# Altium footprint library Dallas Semiconductor Footprints.PcbLib: 181 footprints (part 10 of 12)
Each footprint in its own frame and in the unit in brackets; x right, y up, seen from the top. Pads: shape width x height; smd on the part's side, far side on the other; paste and mask are expansions set on the pad; w line width, h text height; cw(c..) or ccw(c..) is an arc to the next point about the centre after c.
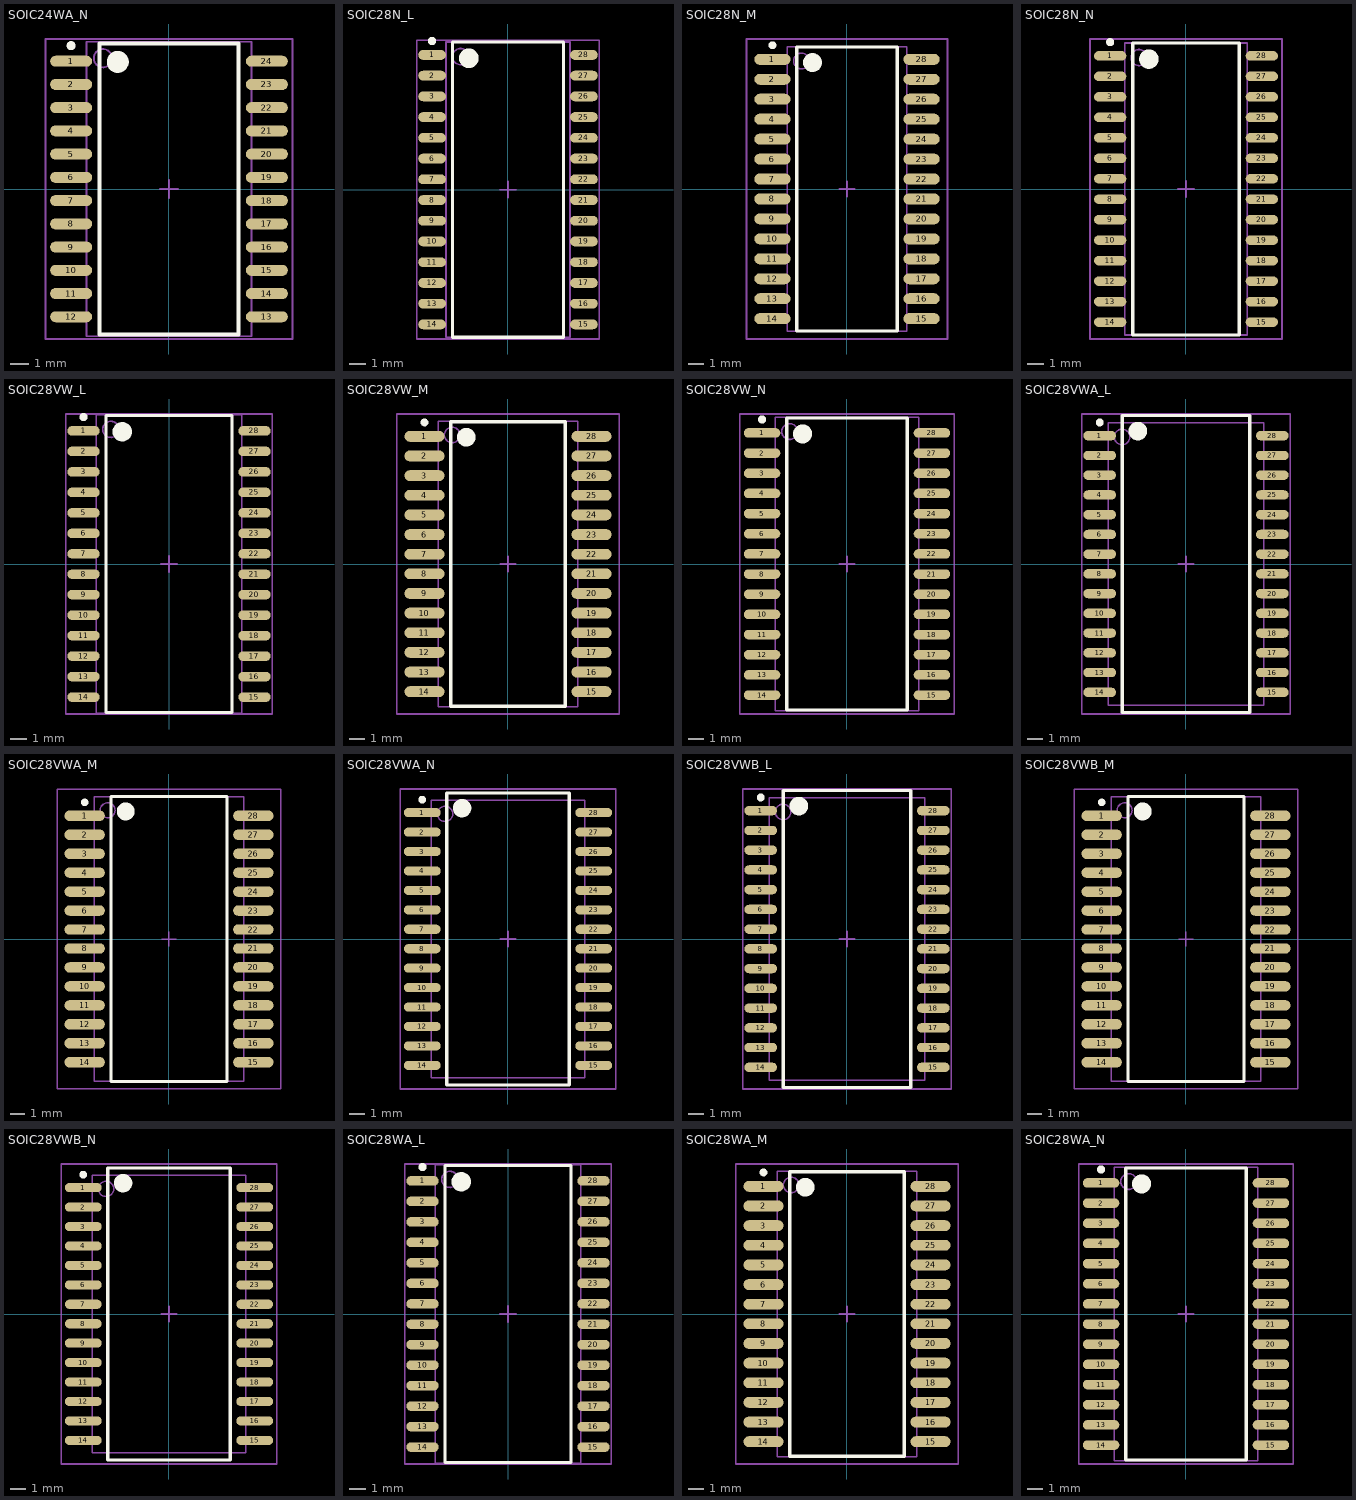
[diagram p9: the footprints below, top view; thin cyan lines are the x and y axes]

## SOIC24WA_N [mm] "24-Pin Small Outline Integrated Circuit 1.27 mm Pitch, IPC Medium Density"
height 3.05
pads (24):
  oval 2.3x0.6 smd: 1(-5.35,6.985) 2(-5.35,5.715) 3(-5.35,4.445) 4(-5.35,3.175) 5(-5.35,1.905) 6(-5.35,0.635) 7(-5.35,-0.635) 8(-5.35,-1.905) 9(-5.35,-3.175) 10(-5.35,-4.445) 11(-5.35,-5.715) 12(-5.35,-6.985) 13(5.35,-6.985) 14(5.35,-5.715) 15(5.35,-4.445) 16(5.35,-3.175) 17(5.35,-1.905) 18(5.35,-0.635) 19(5.35,0.635) 20(5.35,1.905) 21(5.35,3.175) 22(5.35,4.445) 23(5.35,5.715) 24(5.35,6.985)
Top Overlay:
  circle w0.25: c-5.35,7.835 r0.125
  circle w0.6: c-2.8,6.95 r0.3
  lines w0.2: -3.8,-7.95 -3.8,7.95 3.8,7.95 3.8,-7.95 -3.8,-7.95
Mechanical 13:
  circle w0.1: c-3.61,7.15 r0.5
  lines w0.1: -4.51,-8.05 -4.51,8.05 4.51,8.05 4.51,-8.05 -4.51,-8.05
Mechanical 15:
  lines w0.1: -0.5,0 0.5,0 ; 0,-0.5 0,0.5 ; -6.75,-8.2 -6.75,8.2 6.75,8.2 6.75,-8.2 -6.75,-8.2
3D body: height 3.05, standoff 0, extent -4.51,-8.05 4.51,8.05

## SOIC28N_L [mm] "28-Pin Small Outline Integrated Circuit 1.27 mm Pitch, IPC High Density"
height 2.67
pads (28):
  oval 1.7x0.6 smd: 1(-4.65,8.255) 2(-4.65,6.985) 3(-4.65,5.715) 4(-4.65,4.445) 5(-4.65,3.175) 6(-4.65,1.905) 7(-4.65,0.635) 8(-4.65,-0.635) 9(-4.65,-1.905) 10(-4.65,-3.175) 11(-4.65,-4.445) 12(-4.65,-5.715) 13(-4.65,-6.985) 14(-4.65,-8.255) 15(4.65,-8.255) 16(4.65,-6.985) 17(4.65,-5.715) 18(4.65,-4.445) 19(4.65,-3.175) 20(4.65,-1.905) 21(4.65,-0.635) 22(4.65,0.635) 23(4.65,1.905) 24(4.65,3.175) 25(4.65,4.445) 26(4.65,5.715) 27(4.65,6.985) 28(4.65,8.255)
Top Overlay:
  circle w0.25: c-4.65,9.105 r0.125
  circle w0.6: c-2.4,8.05 r0.3
  lines w0.2: -3.4,-9.05 -3.4,9.05 3.4,9.05 3.4,-9.05 -3.4,-9.05
Mechanical 13:
  circle w0.1: c-2.9,8.15 r0.5
  lines w0.1: -3.8,-9.05 -3.8,9.05 3.8,9.05 3.8,-9.05 -3.8,-9.05
Mechanical 15:
  lines w0.1: -0.5,0 0.5,0 ; 0,-0.5 0,0.5 ; -5.6,-9.15 -5.6,9.15 5.6,9.15 5.6,-9.15 -5.6,-9.15
3D body: height 2.67, standoff 0, extent -3.8,-9.05 3.8,9.05

## SOIC28N_M [mm] "28-Pin Small Outline Integrated Circuit 1.27 mm Pitch, IPC Low Density"
height 2.67
pads (28):
  oval 2.3x0.7 smd: 1(-4.75,8.255) 2(-4.75,6.985) 3(-4.75,5.715) 4(-4.75,4.445) 5(-4.75,3.175) 6(-4.75,1.905) 7(-4.75,0.635) 8(-4.75,-0.635) 9(-4.75,-1.905) 10(-4.75,-3.175) 11(-4.75,-4.445) 12(-4.75,-5.715) 13(-4.75,-6.985) 14(-4.75,-8.255) 15(4.75,-8.255) 16(4.75,-6.985) 17(4.75,-5.715) 18(4.75,-4.445) 19(4.75,-3.175) 20(4.75,-1.905) 21(4.75,-0.635) 22(4.75,0.635) 23(4.75,1.905) 24(4.75,3.175) 25(4.75,4.445) 26(4.75,5.715) 27(4.75,6.985) 28(4.75,8.255)
Top Overlay:
  circle w0.25: c-4.75,9.155 r0.125
  circle w0.6: c-2.2,8.05 r0.3
  lines w0.2: -3.2,-9.05 -3.2,9.05 3.2,9.05 3.2,-9.05 -3.2,-9.05
Mechanical 13:
  circle w0.1: c-2.9,8.15 r0.5
  lines w0.1: -3.8,-9.05 -3.8,9.05 3.8,9.05 3.8,-9.05 -3.8,-9.05
Mechanical 15:
  lines w0.1: -0.5,0 0.5,0 ; 0,-0.5 0,0.5 ; -6.4,-9.55 -6.4,9.55 6.4,9.55 6.4,-9.55 -6.4,-9.55
3D body: height 2.67, standoff 0, extent -3.8,-9.05 3.8,9.05

## SOIC28N_N [mm] "28-Pin Small Outline Integrated Circuit 1.27 mm Pitch, IPC Medium Density"
height 2.67
pads (28):
  oval 2x0.6 smd: 1(-4.7,8.255) 2(-4.7,6.985) 3(-4.7,5.715) 4(-4.7,4.445) 5(-4.7,3.175) 6(-4.7,1.905) 7(-4.7,0.635) 8(-4.7,-0.635) 9(-4.7,-1.905) 10(-4.7,-3.175) 11(-4.7,-4.445) 12(-4.7,-5.715) 13(-4.7,-6.985) 14(-4.7,-8.255) 15(4.7,-8.255) 16(4.7,-6.985) 17(4.7,-5.715) 18(4.7,-4.445) 19(4.7,-3.175) 20(4.7,-1.905) 21(4.7,-0.635) 22(4.7,0.635) 23(4.7,1.905) 24(4.7,3.175) 25(4.7,4.445) 26(4.7,5.715) 27(4.7,6.985) 28(4.7,8.255)
Top Overlay:
  circle w0.25: c-4.7,9.105 r0.125
  circle w0.6: c-2.3,8.05 r0.3
  lines w0.2: -3.3,-9.05 -3.3,9.05 3.3,9.05 3.3,-9.05 -3.3,-9.05
Mechanical 13:
  circle w0.1: c-2.9,8.15 r0.5
  lines w0.1: -3.8,-9.05 -3.8,9.05 3.8,9.05 3.8,-9.05 -3.8,-9.05
Mechanical 15:
  lines w0.1: -0.5,0 0.5,0 ; 0,-0.5 0,0.5 ; -5.95,-9.3 -5.95,9.3 5.95,9.3 5.95,-9.3 -5.95,-9.3
3D body: height 2.67, standoff 0, extent -3.8,-9.05 3.8,9.05

## SOIC28VW_L [mm] "28-Pin Small Outline Integrated Circuit 1.27 mm Pitch, IPC High Density"
height 3.15
pads (28):
  oval 2x0.6 smd: 1(-5.3,8.255) 2(-5.3,6.985) 3(-5.3,5.715) 4(-5.3,4.445) 5(-5.3,3.175) 6(-5.3,1.905) 7(-5.3,0.635) 8(-5.3,-0.635) 9(-5.3,-1.905) 10(-5.3,-3.175) 11(-5.3,-4.445) 12(-5.3,-5.715) 13(-5.3,-6.985) 14(-5.3,-8.255) 15(5.3,-8.255) 16(5.3,-6.985) 17(5.3,-5.715) 18(5.3,-4.445) 19(5.3,-3.175) 20(5.3,-1.905) 21(5.3,-0.635) 22(5.3,0.635) 23(5.3,1.905) 24(5.3,3.175) 25(5.3,4.445) 26(5.3,5.715) 27(5.3,6.985) 28(5.3,8.255)
Top Overlay:
  circle w0.25: c-5.3,9.105 r0.125
  circle w0.6: c-2.9,8.2 r0.3
  lines w0.2: -3.9,-9.2 -3.9,9.2 3.9,9.2 3.9,-9.2 -3.9,-9.2
Mechanical 13:
  circle w0.1: c-3.61,8.345 r0.5
  lines w0.1: -4.51,-9.245 -4.51,9.245 4.51,9.245 4.51,-9.245 -4.51,-9.245
Mechanical 15:
  lines w0.1: -0.5,0 0.5,0 ; 0,-0.5 0,0.5 ; -6.4,-9.3 -6.4,9.3 6.4,9.3 6.4,-9.3 -6.4,-9.3
3D body: height 3.15, standoff 0, extent -4.51,-9.245 4.51,9.245

## SOIC28VW_M [mm] "28-Pin Small Outline Integrated Circuit 1.27 mm Pitch, IPC Low Density"
height 3.15
pads (28):
  oval 2.6x0.7 smd: 1(-5.4,8.255) 2(-5.4,6.985) 3(-5.4,5.715) 4(-5.4,4.445) 5(-5.4,3.175) 6(-5.4,1.905) 7(-5.4,0.635) 8(-5.4,-0.635) 9(-5.4,-1.905) 10(-5.4,-3.175) 11(-5.4,-4.445) 12(-5.4,-5.715) 13(-5.4,-6.985) 14(-5.4,-8.255) 15(5.4,-8.255) 16(5.4,-6.985) 17(5.4,-5.715) 18(5.4,-4.445) 19(5.4,-3.175) 20(5.4,-1.905) 21(5.4,-0.635) 22(5.4,0.635) 23(5.4,1.905) 24(5.4,3.175) 25(5.4,4.445) 26(5.4,5.715) 27(5.4,6.985) 28(5.4,8.255)
Top Overlay:
  circle w0.25: c-5.4,9.155 r0.125
  circle w0.6: c-2.7,8.2 r0.3
  lines w0.2: -3.7,-9.2 -3.7,9.2 3.7,9.2 3.7,-9.2 -3.7,-9.2
Mechanical 13:
  circle w0.1: c-3.61,8.345 r0.5
  lines w0.1: -4.51,-9.245 -4.51,9.245 4.51,9.245 4.51,-9.245 -4.51,-9.245
Mechanical 15:
  lines w0.1: -0.5,0 0.5,0 ; 0,-0.5 0,0.5 ; -7.2,-9.7 -7.2,9.7 7.2,9.7 7.2,-9.7 -7.2,-9.7
3D body: height 3.15, standoff 0, extent -4.51,-9.245 4.51,9.245

## SOIC28VW_N [mm] "28-Pin Small Outline Integrated Circuit 1.27 mm Pitch, IPC Medium Density"
height 3.15
pads (28):
  oval 2.3x0.6 smd: 1(-5.35,8.255) 2(-5.35,6.985) 3(-5.35,5.715) 4(-5.35,4.445) 5(-5.35,3.175) 6(-5.35,1.905) 7(-5.35,0.635) 8(-5.35,-0.635) 9(-5.35,-1.905) 10(-5.35,-3.175) 11(-5.35,-4.445) 12(-5.35,-5.715) 13(-5.35,-6.985) 14(-5.35,-8.255) 15(5.35,-8.255) 16(5.35,-6.985) 17(5.35,-5.715) 18(5.35,-4.445) 19(5.35,-3.175) 20(5.35,-1.905) 21(5.35,-0.635) 22(5.35,0.635) 23(5.35,1.905) 24(5.35,3.175) 25(5.35,4.445) 26(5.35,5.715) 27(5.35,6.985) 28(5.35,8.255)
Top Overlay:
  circle w0.25: c-5.35,9.105 r0.125
  circle w0.6: c-2.8,8.2 r0.3
  lines w0.2: -3.8,-9.2 -3.8,9.2 3.8,9.2 3.8,-9.2 -3.8,-9.2
Mechanical 13:
  circle w0.1: c-3.61,8.345 r0.5
  lines w0.1: -4.51,-9.245 -4.51,9.245 4.51,9.245 4.51,-9.245 -4.51,-9.245
Mechanical 15:
  lines w0.1: -0.5,0 0.5,0 ; 0,-0.5 0,0.5 ; -6.75,-9.45 -6.75,9.45 6.75,9.45 6.75,-9.45 -6.75,-9.45
3D body: height 3.15, standoff 0, extent -4.51,-9.245 4.51,9.245

## SOIC28VWA_L [mm] "28-Pin Small Outline Package 1.27 mm Pitch, IPC High Density"
height 3.05
pads (28):
  oval 2.1x0.6 smd: 1(-5.55,8.255) 2(-5.55,6.985) 3(-5.55,5.715) 4(-5.55,4.445) 5(-5.55,3.175) 6(-5.55,1.905) 7(-5.55,0.635) 8(-5.55,-0.635) 9(-5.55,-1.905) 10(-5.55,-3.175) 11(-5.55,-4.445) 12(-5.55,-5.715) 13(-5.55,-6.985) 14(-5.55,-8.255) 15(5.55,-8.255) 16(5.55,-6.985) 17(5.55,-5.715) 18(5.55,-4.445) 19(5.55,-3.175) 20(5.55,-1.905) 21(5.55,-0.635) 22(5.55,0.635) 23(5.55,1.905) 24(5.55,3.175) 25(5.55,4.445) 26(5.55,5.715) 27(5.55,6.985) 28(5.55,8.255)
Top Overlay:
  circle w0.25: c-5.55,9.105 r0.125
  circle w0.6: c-3.1,8.55 r0.3
  lines w0.2: -4.1,-9.55 -4.1,9.55 4.1,9.55 4.1,-9.55 -4.1,-9.55
Mechanical 13:
  circle w0.1: c-4.115,8.175 r0.5
  lines w0.1: -5.015,-9.075 -5.015,9.075 5.015,9.075 5.015,-9.075 -5.015,-9.075
Mechanical 15:
  lines w0.1: -0.5,0 0.5,0 ; 0,-0.5 0,0.5 ; -6.7,-9.65 -6.7,9.65 6.7,9.65 6.7,-9.65 -6.7,-9.65
3D body: height 3.05, standoff 0, extent -5.015,-9.075 5.015,9.075

## SOIC28VWA_M [mm] "28-Pin Small Outline Package 1.27 mm Pitch, IPC Low Density"
height 3.05
pads (28):
  oval 2.7x0.7 smd: 1(-5.65,8.255) 2(-5.65,6.985) 3(-5.65,5.715) 4(-5.65,4.445) 5(-5.65,3.175) 6(-5.65,1.905) 7(-5.65,0.635) 8(-5.65,-0.635) 9(-5.65,-1.905) 10(-5.65,-3.175) 11(-5.65,-4.445) 12(-5.65,-5.715) 13(-5.65,-6.985) 14(-5.65,-8.255) 15(5.65,-8.255) 16(5.65,-6.985) 17(5.65,-5.715) 18(5.65,-4.445) 19(5.65,-3.175) 20(5.65,-1.905) 21(5.65,-0.635) 22(5.65,0.635) 23(5.65,1.905) 24(5.65,3.175) 25(5.65,4.445) 26(5.65,5.715) 27(5.65,6.985) 28(5.65,8.255)
Top Overlay:
  circle w0.25: c-5.65,9.155 r0.125
  circle w0.6: c-2.9,8.55 r0.3
  lines w0.2: -3.9,-9.55 -3.9,9.55 3.9,9.55 3.9,-9.55 -3.9,-9.55
Mechanical 13:
  circle w0.1: c-4.115,8.625 r0.5
  lines w0.1: -5.015,-9.525 -5.015,9.525 5.015,9.525 5.015,-9.525 -5.015,-9.525
Mechanical 15:
  lines w0.1: -0.5,0 0.5,0 ; 0,-0.5 0,0.5 ; -7.5,-10.05 -7.5,10.05 7.5,10.05 7.5,-10.05 -7.5,-10.05
3D body: height 3.05, standoff 0, extent -5.015,-9.525 5.015,9.525

## SOIC28VWA_N [mm] "28-Pin Small Outline Package 1.27 mm Pitch, IPC Medium Density"
height 3.05
pads (28):
  oval 2.4x0.6 smd: 1(-5.6,8.255) 2(-5.6,6.985) 3(-5.6,5.715) 4(-5.6,4.445) 5(-5.6,3.175) 6(-5.6,1.905) 7(-5.6,0.635) 8(-5.6,-0.635) 9(-5.6,-1.905) 10(-5.6,-3.175) 11(-5.6,-4.445) 12(-5.6,-5.715) 13(-5.6,-6.985) 14(-5.6,-8.255) 15(5.6,-8.255) 16(5.6,-6.985) 17(5.6,-5.715) 18(5.6,-4.445) 19(5.6,-3.175) 20(5.6,-1.905) 21(5.6,-0.635) 22(5.6,0.635) 23(5.6,1.905) 24(5.6,3.175) 25(5.6,4.445) 26(5.6,5.715) 27(5.6,6.985) 28(5.6,8.255)
Top Overlay:
  circle w0.25: c-5.6,9.105 r0.125
  circle w0.6: c-3,8.55 r0.3
  lines w0.2: -4,-9.55 -4,9.55 4,9.55 4,-9.55 -4,-9.55
Mechanical 13:
  circle w0.1: c-4.115,8.175 r0.5
  lines w0.1: -5.015,-9.075 -5.015,9.075 5.015,9.075 5.015,-9.075 -5.015,-9.075
Mechanical 15:
  lines w0.1: -0.5,0 0.5,0 ; 0,-0.5 0,0.5 ; -7.05,-9.8 -7.05,9.8 7.05,9.8 7.05,-9.8 -7.05,-9.8
3D body: height 3.05, standoff 0, extent -5.015,-9.075 5.015,9.075

## SOIC28VWB_L [mm] "28-Pin Small Outline Package 1.27 mm Pitch, IPC High Density"
height 3.05
pads (28):
  oval 2.1x0.6 smd: 1(-5.55,8.255) 2(-5.55,6.985) 3(-5.55,5.715) 4(-5.55,4.445) 5(-5.55,3.175) 6(-5.55,1.905) 7(-5.55,0.635) 8(-5.55,-0.635) 9(-5.55,-1.905) 10(-5.55,-3.175) 11(-5.55,-4.445) 12(-5.55,-5.715) 13(-5.55,-6.985) 14(-5.55,-8.255) 15(5.55,-8.255) 16(5.55,-6.985) 17(5.55,-5.715) 18(5.55,-4.445) 19(5.55,-3.175) 20(5.55,-1.905) 21(5.55,-0.635) 22(5.55,0.635) 23(5.55,1.905) 24(5.55,3.175) 25(5.55,4.445) 26(5.55,5.715) 27(5.55,6.985) 28(5.55,8.255)
Top Overlay:
  circle w0.25: c-5.55,9.105 r0.125
  circle w0.6: c-3.1,8.55 r0.3
  lines w0.2: -4.1,-9.55 -4.1,9.55 4.1,9.55 4.1,-9.55 -4.1,-9.55
Mechanical 13:
  circle w0.1: c-4.115,8.175 r0.5
  lines w0.1: -5.015,-9.075 -5.015,9.075 5.015,9.075 5.015,-9.075 -5.015,-9.075
Mechanical 15:
  lines w0.1: -0.5,0 0.5,0 ; 0,-0.5 0,0.5 ; -6.7,-9.65 -6.7,9.65 6.7,9.65 6.7,-9.65 -6.7,-9.65
3D body: height 3.05, standoff 0, extent -5.015,-9.075 5.015,9.075

## SOIC28VWB_M [mm] "28-Pin Small Outline Package 1.27 mm Pitch, IPC Low Density"
height 3.05
pads (28):
  oval 2.7x0.7 smd: 1(-5.65,8.255) 2(-5.65,6.985) 3(-5.65,5.715) 4(-5.65,4.445) 5(-5.65,3.175) 6(-5.65,1.905) 7(-5.65,0.635) 8(-5.65,-0.635) 9(-5.65,-1.905) 10(-5.65,-3.175) 11(-5.65,-4.445) 12(-5.65,-5.715) 13(-5.65,-6.985) 14(-5.65,-8.255) 15(5.65,-8.255) 16(5.65,-6.985) 17(5.65,-5.715) 18(5.65,-4.445) 19(5.65,-3.175) 20(5.65,-1.905) 21(5.65,-0.635) 22(5.65,0.635) 23(5.65,1.905) 24(5.65,3.175) 25(5.65,4.445) 26(5.65,5.715) 27(5.65,6.985) 28(5.65,8.255)
Top Overlay:
  circle w0.25: c-5.65,9.155 r0.125
  circle w0.6: c-2.9,8.55 r0.3
  lines w0.2: -3.9,-9.55 -3.9,9.55 3.9,9.55 3.9,-9.55 -3.9,-9.55
Mechanical 13:
  circle w0.1: c-4.115,8.625 r0.5
  lines w0.1: -5.015,-9.525 -5.015,9.525 5.015,9.525 5.015,-9.525 -5.015,-9.525
Mechanical 15:
  lines w0.1: -0.5,0 0.5,0 ; 0,-0.5 0,0.5 ; -7.5,-10.05 -7.5,10.05 7.5,10.05 7.5,-10.05 -7.5,-10.05
3D body: height 3.05, standoff 0, extent -5.015,-9.525 5.015,9.525

## SOIC28VWB_N [mm] "28-Pin Small Outline Package 1.27 mm Pitch, IPC Medium Density"
height 3.05
pads (28):
  oval 2.4x0.6 smd: 1(-5.6,8.255) 2(-5.6,6.985) 3(-5.6,5.715) 4(-5.6,4.445) 5(-5.6,3.175) 6(-5.6,1.905) 7(-5.6,0.635) 8(-5.6,-0.635) 9(-5.6,-1.905) 10(-5.6,-3.175) 11(-5.6,-4.445) 12(-5.6,-5.715) 13(-5.6,-6.985) 14(-5.6,-8.255) 15(5.6,-8.255) 16(5.6,-6.985) 17(5.6,-5.715) 18(5.6,-4.445) 19(5.6,-3.175) 20(5.6,-1.905) 21(5.6,-0.635) 22(5.6,0.635) 23(5.6,1.905) 24(5.6,3.175) 25(5.6,4.445) 26(5.6,5.715) 27(5.6,6.985) 28(5.6,8.255)
Top Overlay:
  circle w0.25: c-5.6,9.105 r0.125
  circle w0.6: c-3,8.55 r0.3
  lines w0.2: -4,-9.55 -4,9.55 4,9.55 4,-9.55 -4,-9.55
Mechanical 13:
  circle w0.1: c-4.115,8.175 r0.5
  lines w0.1: -5.015,-9.075 -5.015,9.075 5.015,9.075 5.015,-9.075 -5.015,-9.075
Mechanical 15:
  lines w0.1: -0.5,0 0.5,0 ; 0,-0.5 0,0.5 ; -7.05,-9.8 -7.05,9.8 7.05,9.8 7.05,-9.8 -7.05,-9.8
3D body: height 3.05, standoff 0, extent -5.015,-9.075 5.015,9.075

## SOIC28WA_L [mm] "28-Pin Small Outline Integrated Circuit 1.27 mm Pitch, IPC High Density"
height 2.7
pads (28):
  oval 2x0.6 smd: 1(-5.3,8.255) 2(-5.3,6.985) 3(-5.3,5.715) 4(-5.3,4.445) 5(-5.3,3.175) 6(-5.3,1.905) 7(-5.3,0.635) 8(-5.3,-0.635) 9(-5.3,-1.905) 10(-5.3,-3.175) 11(-5.3,-4.445) 12(-5.3,-5.715) 13(-5.3,-6.985) 14(-5.3,-8.255) 15(5.3,-8.255) 16(5.3,-6.985) 17(5.3,-5.715) 18(5.3,-4.445) 19(5.3,-3.175) 20(5.3,-1.905) 21(5.3,-0.635) 22(5.3,0.635) 23(5.3,1.905) 24(5.3,3.175) 25(5.3,4.445) 26(5.3,5.715) 27(5.3,6.985) 28(5.3,8.255)
Top Overlay:
  circle w0.25: c-5.3,9.105 r0.125
  circle w0.6: c-2.9,8.2 r0.3
  lines w0.2: -3.9,-9.2 -3.9,9.2 3.9,9.2 3.9,-9.2 -3.9,-9.2
Mechanical 13:
  circle w0.1: c-3.61,8.345 r0.5
  lines w0.1: -4.51,-9.245 -4.51,9.245 4.51,9.245 4.51,-9.245 -4.51,-9.245
Mechanical 15:
  lines w0.1: -0.5,0 0.5,0 ; 0,-0.5 0,0.5 ; -6.4,-9.3 -6.4,9.3 6.4,9.3 6.4,-9.3 -6.4,-9.3
3D body: height 2.7, standoff 0, extent -4.51,-9.245 4.51,9.245

## SOIC28WA_M [mm] "28-Pin Small Outline Integrated Circuit 1.27 mm Pitch, IPC Low Density"
height 2.7
pads (28):
  oval 2.6x0.7 smd: 1(-5.4,8.255) 2(-5.4,6.985) 3(-5.4,5.715) 4(-5.4,4.445) 5(-5.4,3.175) 6(-5.4,1.905) 7(-5.4,0.635) 8(-5.4,-0.635) 9(-5.4,-1.905) 10(-5.4,-3.175) 11(-5.4,-4.445) 12(-5.4,-5.715) 13(-5.4,-6.985) 14(-5.4,-8.255) 15(5.4,-8.255) 16(5.4,-6.985) 17(5.4,-5.715) 18(5.4,-4.445) 19(5.4,-3.175) 20(5.4,-1.905) 21(5.4,-0.635) 22(5.4,0.635) 23(5.4,1.905) 24(5.4,3.175) 25(5.4,4.445) 26(5.4,5.715) 27(5.4,6.985) 28(5.4,8.255)
Top Overlay:
  circle w0.25: c-5.4,9.155 r0.125
  circle w0.6: c-2.7,8.2 r0.3
  lines w0.2: -3.7,-9.2 -3.7,9.2 3.7,9.2 3.7,-9.2 -3.7,-9.2
Mechanical 13:
  circle w0.1: c-3.61,8.345 r0.5
  lines w0.1: -4.51,-9.245 -4.51,9.245 4.51,9.245 4.51,-9.245 -4.51,-9.245
Mechanical 15:
  lines w0.1: -0.5,0 0.5,0 ; 0,-0.5 0,0.5 ; -7.2,-9.7 -7.2,9.7 7.2,9.7 7.2,-9.7 -7.2,-9.7
3D body: height 2.7, standoff 0, extent -4.51,-9.245 4.51,9.245

## SOIC28WA_N [mm] "28-Pin Small Outline Integrated Circuit 1.27 mm Pitch, IPC Medium Density"
height 2.7
pads (28):
  oval 2.3x0.6 smd: 1(-5.35,8.255) 2(-5.35,6.985) 3(-5.35,5.715) 4(-5.35,4.445) 5(-5.35,3.175) 6(-5.35,1.905) 7(-5.35,0.635) 8(-5.35,-0.635) 9(-5.35,-1.905) 10(-5.35,-3.175) 11(-5.35,-4.445) 12(-5.35,-5.715) 13(-5.35,-6.985) 14(-5.35,-8.255) 15(5.35,-8.255) 16(5.35,-6.985) 17(5.35,-5.715) 18(5.35,-4.445) 19(5.35,-3.175) 20(5.35,-1.905) 21(5.35,-0.635) 22(5.35,0.635) 23(5.35,1.905) 24(5.35,3.175) 25(5.35,4.445) 26(5.35,5.715) 27(5.35,6.985) 28(5.35,8.255)
Top Overlay:
  circle w0.25: c-5.35,9.105 r0.125
  circle w0.6: c-2.8,8.2 r0.3
  lines w0.2: -3.8,-9.2 -3.8,9.2 3.8,9.2 3.8,-9.2 -3.8,-9.2
Mechanical 13:
  circle w0.1: c-3.61,8.345 r0.5
  lines w0.1: -4.51,-9.245 -4.51,9.245 4.51,9.245 4.51,-9.245 -4.51,-9.245
Mechanical 15:
  lines w0.1: -0.5,0 0.5,0 ; 0,-0.5 0,0.5 ; -6.75,-9.45 -6.75,9.45 6.75,9.45 6.75,-9.45 -6.75,-9.45
3D body: height 2.7, standoff 0, extent -4.51,-9.245 4.51,9.245